# Altium schematic symbol library Schlib1.SchLib: 4 symbols
Pins are listed as number, name and electrical type; pins without a type are passive.

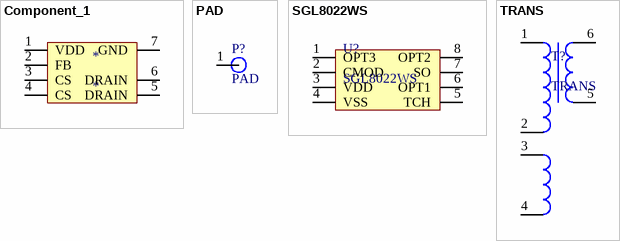
[diagram p0: symbols Component_1 to TRANS]

## Component_1
designator *
pins: 1 VDD, 2 FB, 3 CS, 4 CS, 5 DRAIN, 6 DRAIN, 7 GND

## PAD
designator P?
footprint PAD
pins: 1

## SGL8022WS
designator U?
footprint SOP8
pins: 1 OPT3, 2 CMOD, 3 VDD, 4 VSS, 5 TCH, 6 OPT1, 7 SO, 8 OPT2

## TRANS
designator T?
变压器
pins: 1, 2, 3, 4 5, 5, 6